# Altium footprint library 野火_H743X_核心板_V1.0_PCB封装库_AD格式.PcbLib: 20 footprints (part 1 of 2)
Each footprint in its own frame and in the unit in brackets; x right, y up, seen from the top. Pads: shape width x height; smd on the part's side, far side on the other; paste and mask are expansions set on the pad; w line width, h text height; cw(c..) or ccw(c..) is an arc to the next point about the centre after c.
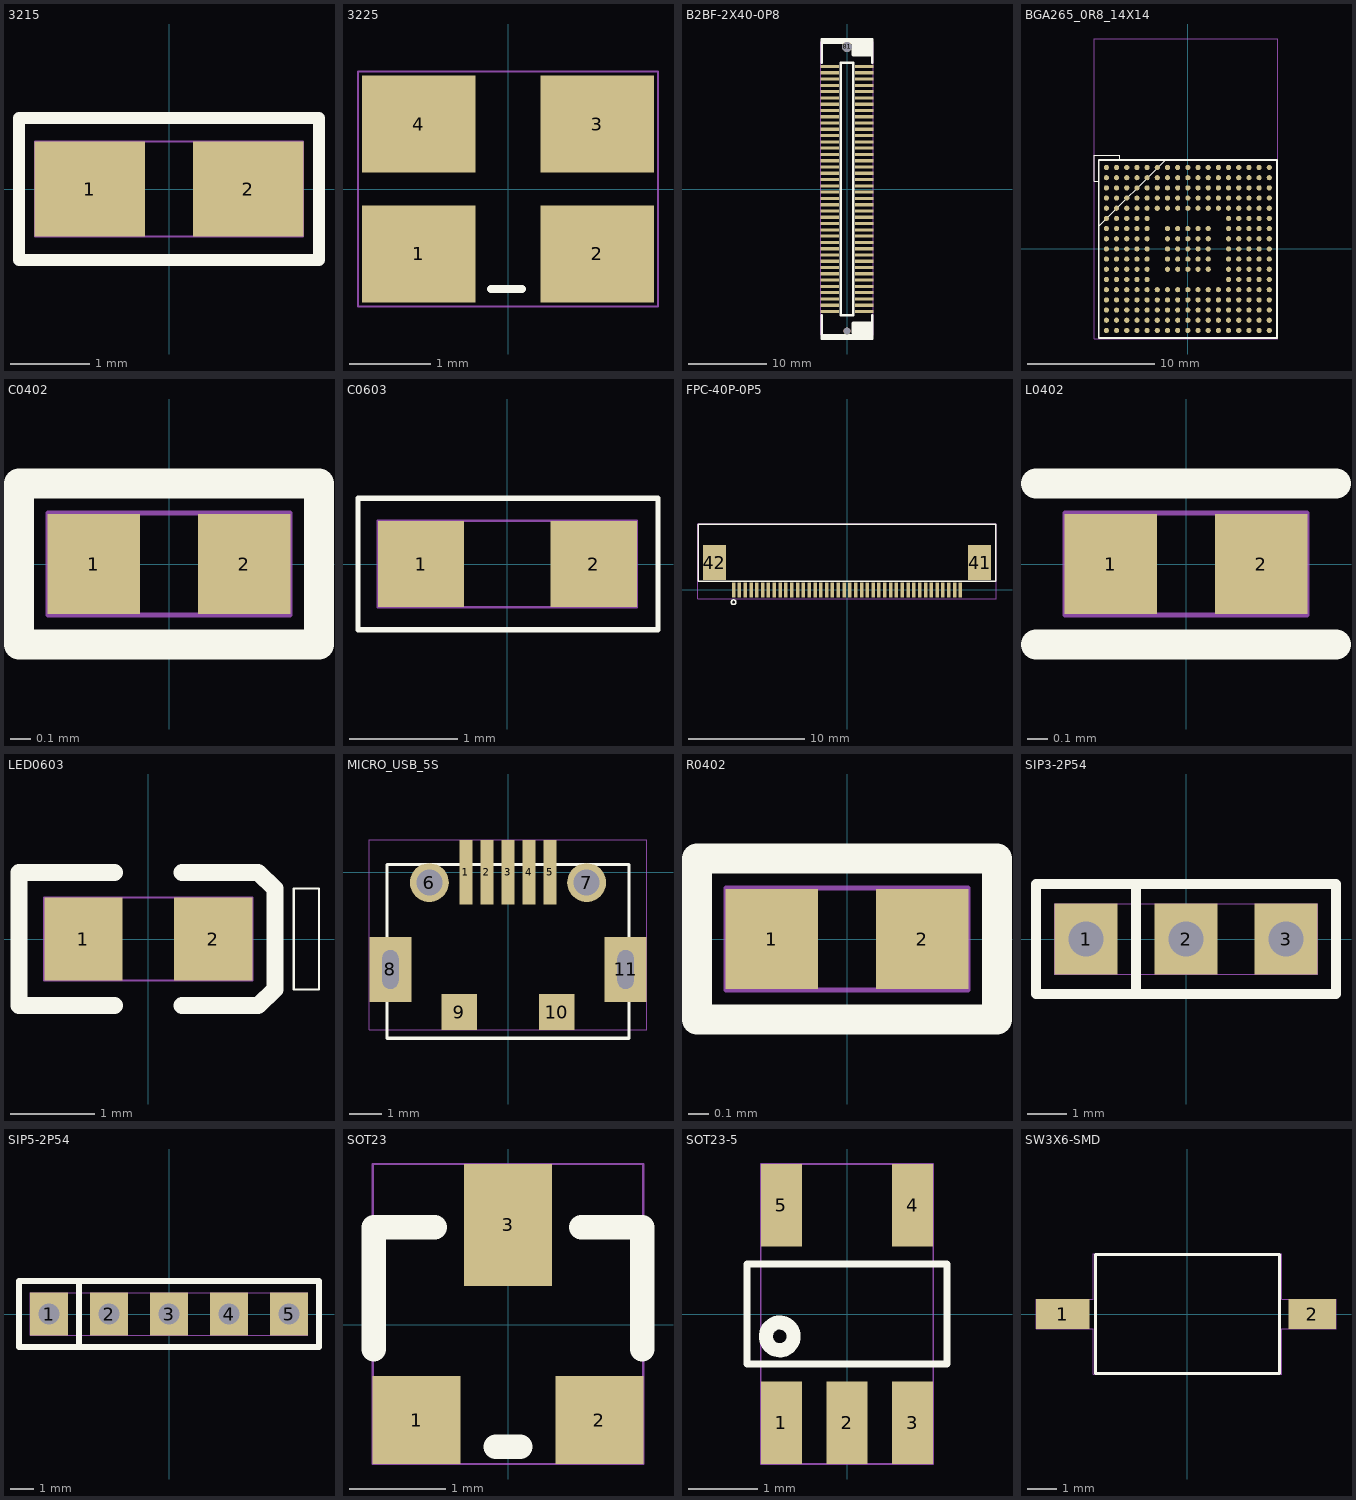
[diagram p0: the footprints below, top view; thin cyan lines are the x and y axes]

## 3215 [mil]
pads (2):
  rect 55.1x47.2 smd mask+2: 1(-39.4,0) 2(39.4,0)
Top Overlay:
  lines w5.9: -74.8,-35.4 74.8,-35.4 74.8,35.4 -74.8,35.4 -74.8,-35.4
Mechanical 1:
  text "Y1" at -28.21,-25 h50
Mechanical 16:
  lines w1: -66.9,-23.6 -66.9,23.6 66.9,23.6 66.9,-23.6 -66.9,-23.6

## 3225 [mil]
pads (4):
  rect 55.1x47.2 smd mask+2: 1(-43.3,-31.5) 2(43.3,-31.5) 3(43.3,31.5) 4(-43.3,31.5)
Top Overlay:
  lines w3.9: -8.3,-48.5 6.7,-48.5
Mechanical 1:
  text "Y2" at -38.93,-25 h50
Mechanical 16:
  lines w1: -72.8,-57.1 72.8,-57.1 72.8,57.1 -72.8,57.1 -72.8,-57.1

## B2BF-2X40-0P8 [mil]
pads (82):
  rect 90.6x15.8 smd mask+1.95: 1(-86.6,614.2) 2(86.6,614.2) 3(-86.6,582.7) 4(86.6,582.7) 5(-86.6,551.2) 6(86.6,551.2) 7(-86.6,519.7) 8(86.6,519.7) 9(-86.6,488.2) 10(86.6,488.2) 11(-86.6,456.7) 12(86.6,456.7) 13(-86.6,425.2) 14(86.6,425.2) 15(-86.6,393.7) 16(86.6,393.7) 17(-86.6,362.2) 18(86.6,362.2) 19(-86.6,330.7) 20(86.6,330.7) 21(-86.6,299.2) 22(86.6,299.2) 23(-86.6,267.7) 24(86.6,267.7) 25(-86.6,236.2) 26(86.6,236.2) 27(-86.6,204.7) 28(86.6,204.7) 29(-86.6,173.2) 30(86.6,173.2) 31(-86.6,141.7) 32(86.6,141.7) 33(-86.6,110.2) 34(86.6,110.2) 35(-86.6,78.7) 36(86.6,78.7) 37(-86.6,47.2) 38(86.6,47.2) 39(-86.6,15.8) 40(86.6,15.8) 41(-86.6,-15.8) 42(86.6,-15.8) 43(-86.6,-47.2) 44(86.6,-47.2) 45(-86.6,-78.7) 46(86.6,-78.7) 47(-86.6,-110.2) 48(86.6,-110.2) 49(-86.6,-141.7) 50(86.6,-141.7) 51(-86.6,-173.2) 52(86.6,-173.2) 53(-86.6,-204.7) 54(86.6,-204.7) 55(-86.6,-236.2) 56(86.6,-236.2) 57(-86.6,-267.7) 58(86.6,-267.7) 59(-86.6,-299.2) 60(86.6,-299.2) 61(-86.6,-330.7) 62(86.6,-330.7) 63(-86.6,-362.2) 64(86.6,-362.2) 65(-86.6,-393.7) 66(86.6,-393.7) 67(-86.6,-425.2) 68(86.6,-425.2) 69(-86.6,-456.7) 70(86.6,-456.7) 71(-86.6,-488.2) 72(86.6,-488.2) 73(-86.6,-519.7) 74(86.6,-519.7) 75(-86.6,-551.2) 76(86.6,-551.2) 77(-86.6,-582.7) 78(86.6,-582.7) 79(-86.6,-614.2) 80(86.6,-614.2)
  round 51.2 hole 51.2 unplated mask+1.95: 81(0,712.6)
  round 35.4 hole 35.4 unplated mask+2.5: 82(0,-712.6)
Top Overlay:
  lines w12: -126,-633.9 -126,-752 126,-752 126,-633.9 ; -126,633.9 -126,752 126,752 126,633.9 ; -31.5,-633.9 -31.5,633.9 31.5,633.9 31.5,-633.9 -31.5,-633.9
  lines w19.7: -118.1,-736.2 118.1,-736.2 ; -118.1,736.2 118.1,736.2 ; 31.9,-720.5 118.5,-720.5 ; 31.9,-704.7 118.5,-704.7 ; 31.9,-689 118.5,-689 ; 31.9,-673.2 118.5,-673.2 ; 31.9,673.2 118.5,673.2 ; 31.9,689 118.5,689 ; 31.9,704.7 118.5,704.7 ; 31.9,720.5 118.5,720.5 ; 33.5,-720.5 33.5,-673.2 ; 33.5,673.2 33.5,720.5
Mechanical 1:
  text "CN2" at 65.11,25 h50
Mechanical 16:
  lines w1: -131.9,-730.3 131.9,-730.3 131.9,738.2 -131.9,738.2 -131.9,-730.3

## BGA265_0R8_14X14 [mil]
pads (265):
  round 16 smd mask+2: A1(-252,252) A2(-220.5,252) A3(-189,252) A4(-157.5,252) A5(-126,252) A6(-94.5,252) A7(-63,252) A8(-31.5,252) A9(0,252) A10(31.5,252) A11(63,252) A12(94.5,252) A13(126,252) A14(157.5,252) A15(189,252) A16(220.5,252) A17(252,252) B1(-252,220.5) B2(-220.5,220.5) B3(-189,220.5) B4(-157.5,220.5) B5(-126,220.5) B6(-94.5,220.5) B7(-63,220.5) B8(-31.5,220.5) B9(0,220.5) B10(31.5,220.5) B11(63,220.5) B12(94.5,220.5) B13(126,220.5) B14(157.5,220.5) B15(189,220.5) B16(220.5,220.5) B17(252,220.5) C1(-252,189) C2(-220.5,189) C3(-189,189) C4(-157.5,189) C5(-126,189) C6(-94.5,189) C7(-63,189) C8(-31.5,189) C9(0,189) C10(31.5,189) C11(63,189) C12(94.5,189) C13(126,189) C14(157.5,189) C15(189,189) C16(220.5,189) C17(252,189) D1(-252,157.5) D2(-220.5,157.5) D3(-189,157.5) D4(-157.5,157.5) D5(-126,157.5) D6(-94.5,157.5) D7(-63,157.5) D8(-31.5,157.5) D9(0,157.5) D10(31.5,157.5) D11(63,157.5) D12(94.5,157.5) D13(126,157.5) D14(157.5,157.5) D15(189,157.5) D16(220.5,157.5) D17(252,157.5) E1(-252,126) E2(-220.5,126) E3(-189,126) E4(-157.5,126) E5(-126,126) E6(-94.5,126) E7(-63,126) E8(-31.5,126) E9(0,126) E10(31.5,126) E11(63,126) E12(94.5,126) E13(126,126) E14(157.5,126) E15(189,126) E16(220.5,126) E17(252,126) F1(-252,94.5) F2(-220.5,94.5) F3(-189,94.5) F4(-157.5,94.5) F5(-126,94.5) F13(126,94.5) F14(157.5,94.5) F15(189,94.5) F16(220.5,94.5) F17(252,94.5) G1(-252,63) G2(-220.5,63) G3(-189,63) G4(-157.5,63) G5(-126,63) G7(-63,63) G8(-31.5,63) G9(0,63) G10(31.5,63) G11(63,63) G13(126,63) G14(157.5,63) G15(189,63) G16(220.5,63) G17(252,63) H1(-252,31.5) H2(-220.5,31.5) H3(-189,31.5) H4(-157.5,31.5) H5(-126,31.5) H7(-63,31.5) H8(-31.5,31.5) H9(0,31.5) H10(31.5,31.5) H11(63,31.5) H13(126,31.5) H14(157.5,31.5) H15(189,31.5) H16(220.5,31.5) H17(252,31.5) J1(-252,0) J2(-220.5,0) J3(-189,0) J4(-157.5,0) J5(-126,0) J7(-63,0) J8(-31.5,0) J9(0,0) J10(31.5,0) J11(63,0) J13(126,0) J14(157.5,0) J15(189,0) J16(220.5,0) J17(252,0) K1(-252,-31.5) K2(-220.5,-31.5) K3(-189,-31.5) K4(-157.5,-31.5) K5(-126,-31.5) K7(-63,-31.5) K8(-31.5,-31.5) K9(0,-31.5) K10(31.5,-31.5) K11(63,-31.5) K13(126,-31.5) K14(157.5,-31.5) K15(189,-31.5) K16(220.5,-31.5) K17(252,-31.5) L1(-252,-63) L2(-220.5,-63) L3(-189,-63) L4(-157.5,-63) L5(-126,-63) L7(-63,-63) L8(-31.5,-63) L9(0,-63) L10(31.5,-63) L11(63,-63) L13(126,-63) L14(157.5,-63) L15(189,-63) L16(220.5,-63) L17(252,-63) M1(-252,-94.5) M2(-220.5,-94.5) M3(-189,-94.5) M4(-157.5,-94.5) M5(-126,-94.5) M13(126,-94.5) M14(157.5,-94.5) M15(189,-94.5) M16(220.5,-94.5) M17(252,-94.5) N1(-252,-126) N2(-220.5,-126) N3(-189,-126) N4(-157.5,-126) N5(-126,-126) N6(-94.5,-126) N7(-63,-126) N8(-31.5,-126) N9(0,-126) N10(31.5,-126) N11(63,-126) N12(94.5,-126) N13(126,-126) N14(157.5,-126) N15(189,-126) N16(220.5,-126) N17(252,-126) P1(-252,-157.5) P2(-220.5,-157.5) P3(-189,-157.5) P4(-157.5,-157.5) P5(-126,-157.5) P6(-94.5,-157.5) P7(-63,-157.5) P8(-31.5,-157.5) P9(0,-157.5) P10(31.5,-157.5) P11(63,-157.5) P12(94.5,-157.5) P13(126,-157.5) P14(157.5,-157.5) P15(189,-157.5) P16(220.5,-157.5) P17(252,-157.5) R1(-252,-189) R2(-220.5,-189) R3(-189,-189) R4(-157.5,-189) R5(-126,-189) R6(-94.5,-189) R7(-63,-189) R8(-31.5,-189) R9(0,-189) R10(31.5,-189) R11(63,-189) R12(94.5,-189) R13(126,-189) R14(157.5,-189) R15(189,-189) R16(220.5,-189) R17(252,-189) T1(-252,-220.5) T2(-220.5,-220.5) T3(-189,-220.5) T4(-157.5,-220.5) T5(-126,-220.5) T6(-94.5,-220.5) T7(-63,-220.5) T8(-31.5,-220.5) T9(0,-220.5) T10(31.5,-220.5) T11(63,-220.5) T12(94.5,-220.5) T13(126,-220.5) T14(157.5,-220.5) T15(189,-220.5) T16(220.5,-220.5) T17(252,-220.5) U1(-252,-252) U2(-220.5,-252) U3(-189,-252) U4(-157.5,-252) U5(-126,-252) U6(-94.5,-252) U7(-63,-252) U8(-31.5,-252) U9(0,-252) U10(31.5,-252) U11(63,-252) U12(94.5,-252) U13(126,-252) U14(157.5,-252) U15(189,-252) U16(220.5,-252) U17(252,-252)
Top Overlay:
  lines w1: -275,275 -210,275 -210,290 -290,290 -290,210 -275,210 -275,275 ; -275,275 -275,70 -70,275 -275,275
  lines w5: -275.6,-275.6 -275.6,275.6 275.6,275.6 275.6,-275.6 -275.6,-275.6
  lines w6: -275.6,-275.6 -275.6,275.6 275.6,275.6 275.6,-275.6 -275.6,-275.6
Mechanical 1:
  text "U3" at -40.23,-25 h50
Mechanical 16:
  lines w1: -290,-278.6 278.6,-278.6 278.6,649.5 -290,649.5 -290,-278.6

## C0402 [mil]
pads (2):
  rect 18.1x19.7 smd mask+1.95: 1(-14.8,0) 2(14.8,0)
Top Overlay:
  lines w5.9: -29.5,-15.8 -29.5,15.8 29.5,15.8 29.5,-15.8 -29.5,-15.8
Mechanical 1:
  text "C69" at -61.3,-25 h50
Mechanical 16:
  lines w1: -23.8,-10 23.8,-10 23.8,10 -23.8,10 -23.8,-10

## C0603 [mil]
pads (2):
  rect 31.5x31.5 smd mask+1.95: 1(-31.5,0) 2(31.5,0)
Top Overlay:
  lines w2: -54.5,-24 55,-24 55,24 -54.5,24 -54.5,-24
Mechanical 1:
  text "C45" at -63.8,-25 h50
Mechanical 16:
  lines w1: -47.2,-15.8 47.2,-15.8 47.2,15.8 -47.2,15.8 -47.2,-15.8

## FPC-40P-0P5 [mil]
pads (42):
  rect 11.8x51.2 smd mask+1.95: 1(-383.9,0) 2(-364.2,0) 3(-344.5,0) 4(-324.8,0) 5(-305.1,0) 6(-285.4,0) 7(-265.8,0) 8(-246.1,0) 9(-226.4,0) 10(-206.7,0) 11(-187,0) 12(-167.3,0) 13(-147.6,0) 14(-128,0) 15(-108.3,0) 16(-88.6,0) 17(-68.9,0) 18(-49.2,0) 19(-29.5,0) 20(-9.8,0) 21(9.8,0) 22(29.5,0) 23(49.2,0) 24(68.9,0) 25(88.6,0) 26(108.3,0) 27(128,0) 28(147.6,0) 29(167.3,0) 30(187,0) 31(206.7,0) 32(226.4,0) 33(246.1,0) 34(265.8,0) 35(285.4,0) 36(305.1,0) 37(324.8,0) 38(344.5,0) 39(364.2,0) 40(383.9,0)
  rect 78.7x118.1 smd mask+1.95: 41(448.8,92.5) 42(-448.8,92.5)
Top Overlay:
  circle w5: c-383.86,-41.34 r7.86
  lines w5: -503.9,29.5 -503.9,222.4 503.9,222.4 503.9,29.5 -503.9,29.5
Mechanical 1:
  text "J1" at -24.29,-25 h50
Mechanical 16:
  lines w1: -505,-29.5 -505,225 505,225 505,-29.5 -505,-29.5

## L0402 [mil]
pads (2):
  rect 18.1x19.7 smd mask+1.95: 1(-14.8,0) 2(14.8,0)
Top Overlay:
  lines w5.9: -29.5,-15.8 29.5,-15.8 ; -29.5,15.8 29.5,15.8
Mechanical 1:
  text "L3" at -33.69,-25 h50
Mechanical 16:
  lines w1: -23.8,-10 23.8,-10 23.8,10 -23.8,10 -23.8,-10

## LED0603 [mil]
pads (2):
  rect 36.6x38.6 smd mask+1.95: 1(-30.3,0) 2(30.3,0)
Top Overlay:
  lines w1: 67.9,-23.6 67.9,23.6 79.7,23.6 79.7,-23.6 67.9,-23.6
  lines w7.9: -15.8,-31.1 -60.4,-31.1 -60.4,31.1 -15.8,31.1 ; 15.8,-31.1 51.2,-31.1 59.1,-23.5 59.1,23.5 51.2,31.1 15.8,31.1
Mechanical 1:
  text "D1" at -28.21,-25 h50
Mechanical 16:
  lines w1: -48.6,-19.3 48.6,-19.3 48.6,19.3 -48.6,19.3 -48.6,-19.3

## MICRO_USB_5S [mil]
pads (11):
  rect 15.8x78.7 smd mask+2: 1(-51.2,0) 2(-25.6,0) 3(0,0) 4(25.6,0) 5(51.2,0)
  round 47.2 hole 31.5 mask+2: 6(-95.5,-12.6) 7(95.5,-12.6)
  rect 51.2x78.7 hole 19.7 slot 47.2 at 90 deg mask+2: 8(-142.7,-118.1) 11(142.7,-118.1)
  rect 43.3x43.3 smd mask+1.95: 9(-59.1,-169.7) 10(59.1,-169.7)
Top Overlay:
  lines w3.9: -146.8,-201.6 -146.8,9.2 ; -146.8,-201.6 146.8,-201.6 ; -146.8,-201.6 -146.8,9.2 ; -146.8,-201.6 146.8,-201.6 ; -146.8,9.2 146.8,9.2 ; -146.8,9.2 146.8,9.2 ; 146.8,-201.6 146.8,9.2 ; 146.8,-201.6 146.8,9.2
Mechanical 1:
  text "J3" at -35,-25 h50
Mechanical 16:
  lines w1: -168.3,-191.3 168.3,-191.3 168.3,39.4 -168.3,39.4 -168.3,-191.3

## R0402 [mil]
pads (2):
  rect 18.1x19.7 smd mask+1.95: 1(-14.8,0) 2(14.8,0)
Top Overlay:
  lines w5.9: -29.5,-15.8 -29.5,15.8 29.5,15.8 29.5,-15.8 -29.5,-15.8
Mechanical 1:
  text "R9" at -37.73,-25 h50
Mechanical 16:
  lines w1: -23.8,-10 23.8,-10 23.8,10 -23.8,10 -23.8,-10

## SIP3-2P54 [mil]
pads (3):
  rect 63x70.9 hole 35.4 mask+1.95: 1(-100,0) 2(0,0) 3(100,0)
Top Overlay:
  lines w10: -50,-55.1 -50,55.1 ; -150,-55.1 -150,55.1 150,55.1 150,-55.1 -150,-55.1
Mechanical 1:
  text "J4" at -36.19,-25 h50
Mechanical 16:
  lines w1: -131.5,-35.4 131.5,-35.4 131.5,35.4 -131.5,35.4 -131.5,-35.4

## SIP5-2P54 [mil]
pads (5):
  rect 63x70.9 hole 35.4 mask+1.95: 1(-200,0) 2(-100,0) 3(0,0) 4(100,0) 5(200,0)
Top Overlay:
  lines w10: -150,-55.1 -150,55.1 ; -250,-55.1 -250,55.1 250,55.1 250,-55.1 -250,-55.1
Mechanical 1:
  text "J2" at -35,-25 h50
Mechanical 16:
  lines w1: -231.5,-35.4 231.5,-35.4 231.5,35.4 -231.5,35.4 -231.5,-35.4

## SOT23 [mil]
pads (3):
  rect 36x36 smd mask+1.95: 1(-37.5,-39) 2(37.5,-39)
  rect 36x50 smd mask+1.95: 3(0,41)
Top Overlay:
  lines w10: -55,-10 -55,40 -30,40 ; -5,-50 5,-50 ; 30,40 55,40 55,-10
Mechanical 1:
  text "D2" at -38.93,-25 h50
Mechanical 16:
  lines w1: -55.5,-57 55.5,-57 55.5,66 -55.5,66 -55.5,-57

## SOT23-5 [mil]
pads (5):
  rect 23.6x47.2 smd mask+2: 1(-37.4,-62) 2(0,-62) 3(37.4,-62) 4(37.4,62) 5(-37.4,62)
Top Overlay:
  circle w8: c-38.4,-12.79 r7.9
  lines w4: -57.1,-28.5 57.1,-28.5 57.1,18.7 57.1,28.5 -57.1,28.5 -57.1,18.7 -57.1,-28.5
Mechanical 1:
  text "U9" at -39.04,-25 h50
Mechanical 16:
  lines w1: -49.2,-85.6 49.2,-85.6 49.2,85.6 -49.2,85.6 -49.2,-85.6

## SW3X6-SMD [mil]
pads (2):
  rect 70.9x39.4 smd mask+1.95: 1(-165,0)
  rect 63x39.4 smd mask+1.95: 2(165,0)
Top Overlay:
  lines w3.9: -122,-78.7 -122,78.7 122,78.7 122,-78.7 -122,-78.7
Mechanical 1:
  text "SW3" at -67.73,-25 h50
Mechanical 16:
  lines w1: -200.4,-19.7 -200.4,19.7 -125,19.7 -125,80 125,80 125,19.7 196.5,19.7 196.5,-19.7 125,-19.7 125,-80 -125,-80 -125,-19.7 -200.4,-19.7